# EAGLE library part MICRO_MATE-N-LOK_8_RIGHT_ANGLE (library con-tyco-micro-mate-n-lok-old)
1445100-8
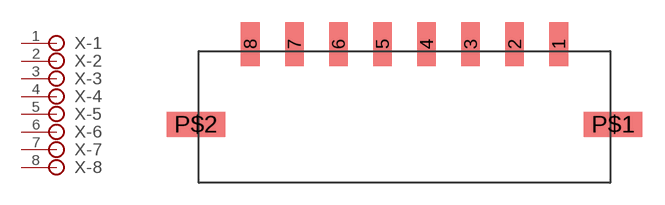
[diagram p5: symbol with the pads of MICRO_MATE-N-LOK_8_1_ROW_SURFACE_RIGHT_ANGLE; footprint MICRO_MATE-N-LOK_8_1_ROW_SURFACE_RIGHT_ANGLE]

Designator prefix X; gates -1=PIN -3=PIN -2=PIN -4=PIN -6=PIN -5=PIN -7=PIN -8=PIN

## MICRO_MATE-N-LOK_8_RIGHT_ANGLE  [MICRO_MATE-N-LOK_8_1_ROW_SURFACE_RIGHT_ANGLE]
1  -1:P$1
2  -2:P$1
3  -3:P$1
4  -4:P$1
5  -5:P$1
6  -6:P$1
7  -7:P$1
8  -8:P$1

## Footprint MICRO_MATE-N-LOK_8_1_ROW_SURFACE_RIGHT_ANGLE (pad centres in mm)
smd 1.27 x 3: 1 10.5,5.48; 2 7.5,5.48; 3 4.5,5.48; 4 1.5,5.48; 5 -1.5,5.48; 6 -4.5,5.48; 7 -7.5,5.48; 8 -10.5,5.48
smd 4 x 1.7: P$1 14.205,0; P$2 -14.205,0